# Altium schematic symbol library IMR_LIB_SCH_R2.SchLib: 146 symbols (part 2 of 2)
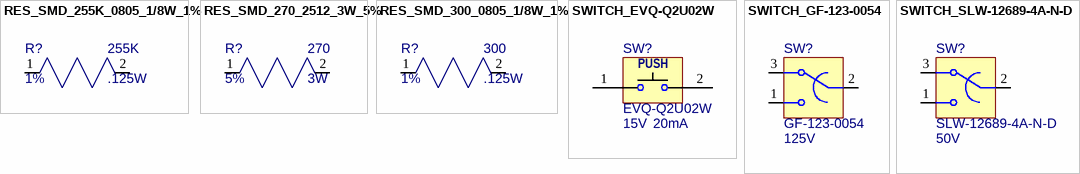
[diagram p5: symbols RES_SMD_255K_0805_1/8W_1% to SWITCH_SLW-12689-4A-N-D]

## SWITCH_EVQ-Q2U02W
designator SW?, comment value 15V  Current: 20mA  (hidden comment: EVQ-Q2U02W)
SWITCH TACTILE SPST-NO 0.02A 15V; MFG: American Zettler; Case/Package: EVQQ2; Supplier 1: DigiKey; Supplier Part Number 1: P12954SCT-ND; Unit Price: .25; MFG_PN: EVQ-Q2U02W
footprint PANASONIC_EVQ-Q2U02W (SWITCH)
pins: 1 B, 2 B'
text: PUSH

## SWITCH_GF-123-0054
designator SW?, comment value 125V  (hidden comment: GF-123-0054)
SWITCH SLIDE SPDT 300MA 50V; MFG: CW Industries; Current: 8.5A; Case/Package: SLW-12689-4A-N-D; Supplier 1: DigiKey; Supplier Part Number 1: CWI333-ND; Unit Price: 1.70; MFG_PN: GF-123-0054
footprint SLW126894AND
pins: 1, 2, 3

## SWITCH_SLW-12689-4A-N-D
designator SW?, comment value 50V  (hidden comment: SLW-12689-4A-N-D)
SWITCH SLIDE SPDT 300MA 50V; MFG: Same Sky; Case/Package: SLW-12689-4A-N-D; Supplier 1: DigiKey; Supplier Part Number 1: 2223-SLW-12689-4A-N-D-ND; Unit Price: .48; Current: 300mA; MFG_PN: SLW-12689-4A-N-D
footprint SLW126894AND
pins: 1, 2, 3